# Altium schematic symbol library BiricuticoBonito.SchLib: 40 symbols (part 2 of 2)
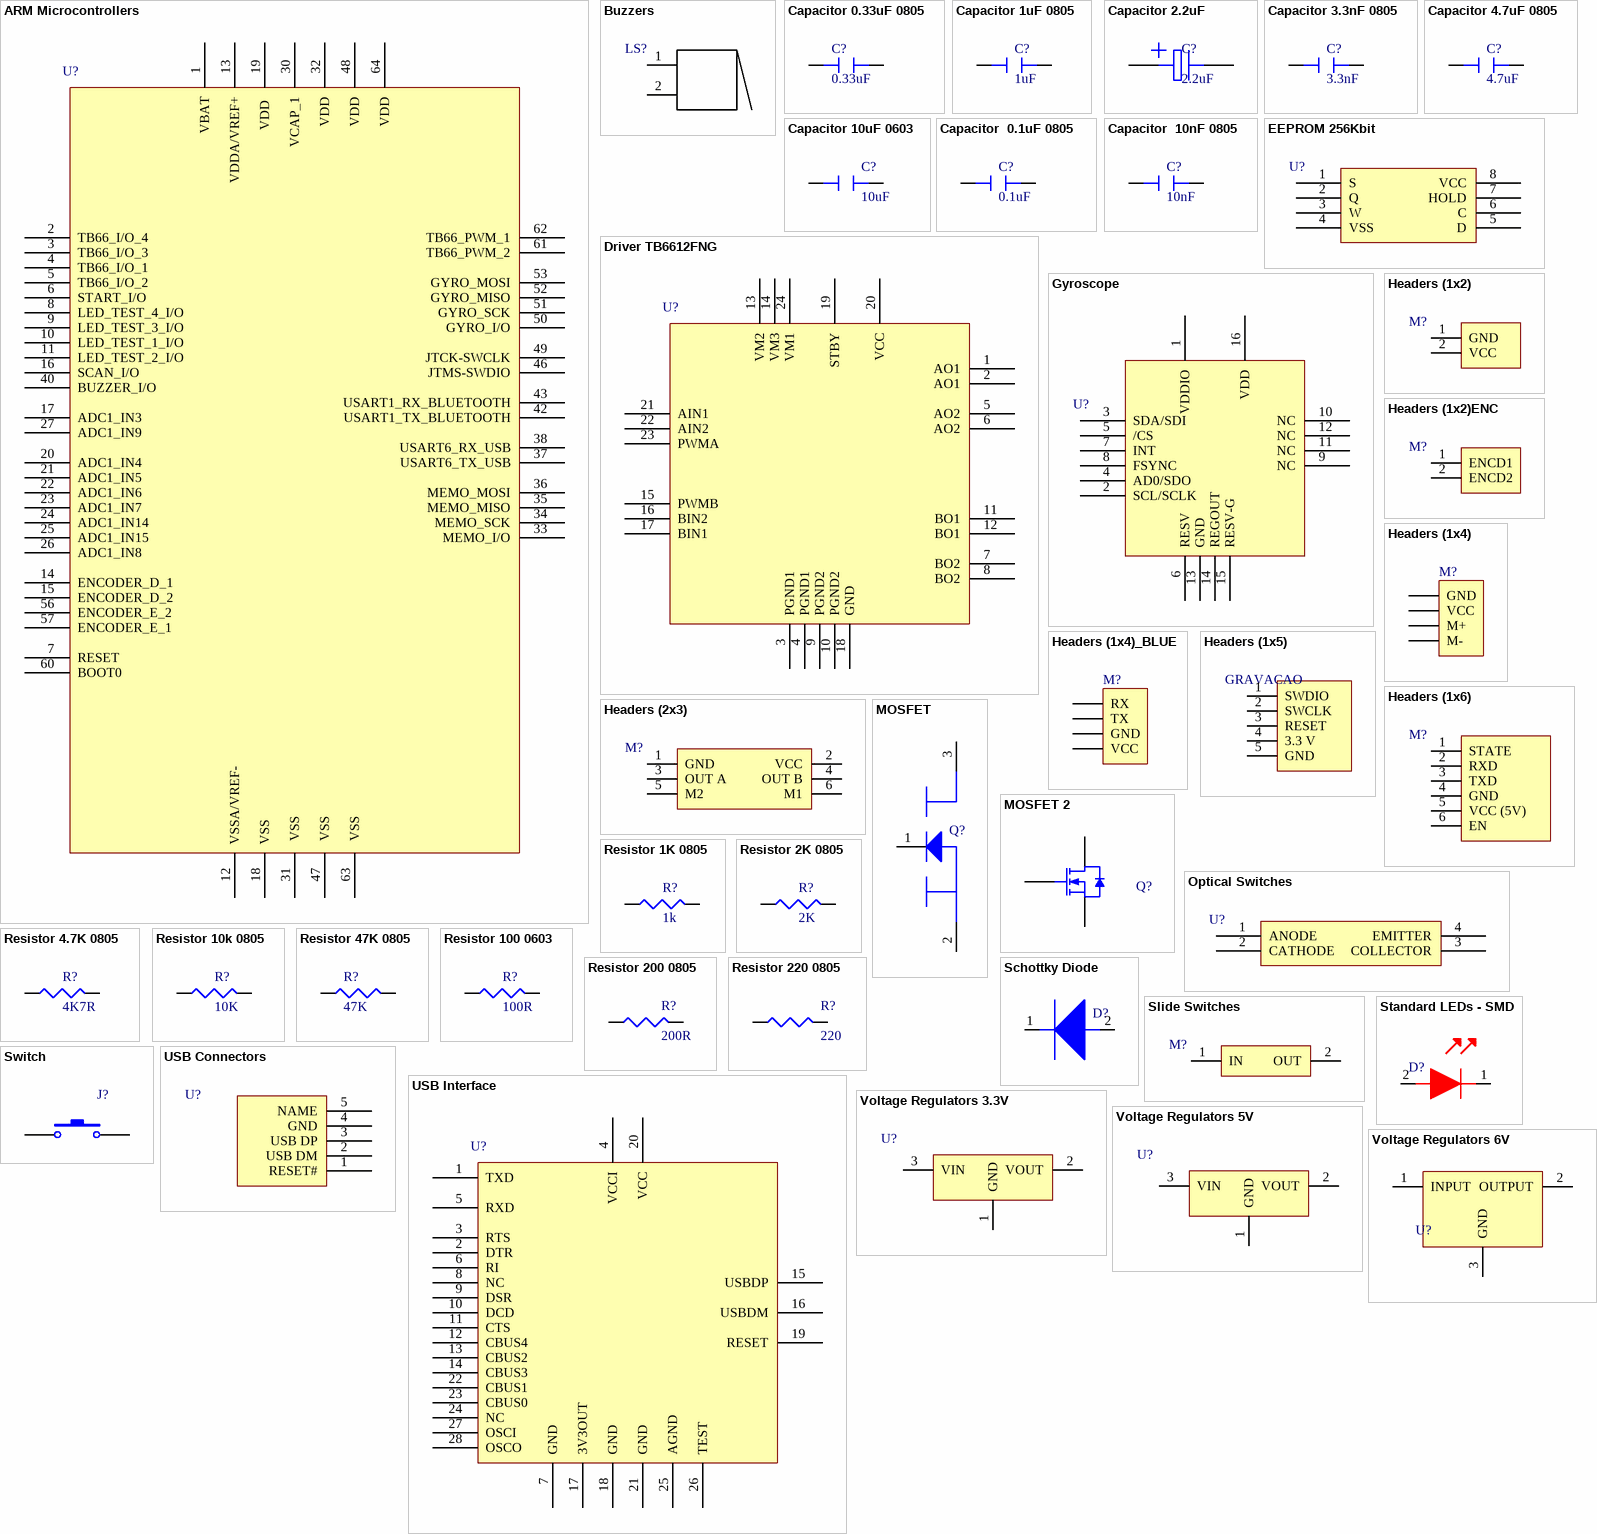
[diagram p1: symbols ARM Microcontrollers to Voltage Regulators 6V]

## Resistor 10k 0805
designator R?, comment 10K
RES SMD 10K OHM 1% 1/8W 0805; Manufacturer: Vishay; Manufacturer Part Number: CRCW080510K0FKEA; Resistance: 10kR; Power Rating: 125mW; Voltage Rating: 150V; Temperature Coefficient: 100ppm/°C; Supplier 1: Mouser; Stock 1: 474662; Pricing 1: 1=0.1, 10=0.066, 50=0.066, 100=0.06, 1000=0.043, 10000=0.019 (USD); Case/Package: 0805; Weight: 0.000194oz; Case Code (Imperial): 0805; Case Code (Metric): 2012; Contact Plating: Tin; Min Operating Temperature: -55°C; Max Operating Temperature: 155°C; Tolerance: 1%; Packaging: Tape and Reel; Package Quantity: 5000; Composition: Thick Film; Military Standard: Not; Termination: SMD/SMT; Voltage Rating (DC): 150V; Length: 2mm; Height: 0.45mm; Width: 1.25mm; Depth: 1.25mm; Radiation Hardening: No; REACH SVHC: Unknown; Lead Free: Lead Free; ComponentLink1URL: http://www.mouser.com/ds/2/427/dcrcwe3-109170.pdf?src-supplier=Mouser; ComponentLink1Description: http://www.mouser.com/ds/2/427/dcrcwe3-109170.pdf?src-supplier=Mouser; ComponentLink2URL: http://uk.rs-online.com/webdocs/0d98/0900766b80d98b26.pdf?src-supplier=RSComponents; ComponentLink2Description: http://uk.rs-online.com/webdocs/0d98/0900766b80d98b26.pdf?src-supplier=RSComponents; ComponentLink3URL: http://www.alliedelec.com/m/d/0c934d6939ccefa68dbe0b96d821c8cf.pdf?src-supplier=Allied+Electronics; ComponentLink3Description: http://www.alliedelec.com/m/d/0c934d6939ccefa68dbe0b96d821c8cf.pdf?src-supplier=Allied+Electronics; ComponentLink4URL: http://www.vishay.com/docs/20035/dcrcwe3.pdf?src-supplier=Avnet+Asia; ComponentLink4Description: http://www.vishay.com/docs/20035/dcrcwe3.pdf?src-supplier=Avnet+Asia; ComponentLink5URL: http://www.vishay.com/docs/20035/dcrcwe3.pdf?src-supplier=Avnet+Europe; ComponentLink5Description: http://www.vishay.com/docs/20035/dcrcwe3.pdf?src-supplier=Avnet+Europe; ComponentLink6URL: http://www.vishay.com/docs/20035/dcrcwe3.pdf?src-supplier=Avnet; ComponentLink6Description: http://www.vishay.com/docs/20035/dcrcwe3.pdf?src-supplier=Avnet; ComponentLink7URL: http://www.farnell.com/datasheets/2310790.pdf?src-supplier=Element14; ComponentLink7Description: http://www.farnell.com/datasheets/2310790.pdf?src-supplier=Element14; ComponentLink8URL: http://www.vishay.com/docs/20035/dcrcwe3.pdf?src-supplier=Future+Electronics; ComponentLink8Description: http://www.vishay.com/docs/20035/dcrcwe3.pdf?src-supplier=Future+Electronics; Supplier Part Number 1: 71-CRCW0805-10K-E3; Category: Thick Film Resistors - SMD
footprint 6-0805_M
pins: 1 28, 2 27

## Resistor 47K 0805
designator R?, comment 47K
RES SMD 47K OHM 1% 1/8W 0805; Manufacturer: Vishay; Manufacturer Part Number: CRCW080547K0FKEA; Resistance: 47kR; Voltage Rating: 150V; Power Rating: 125mW; Temperature Coefficient: 100ppm/°C; Supplier 1: Mouser; Stock 1: 21962; Pricing 1: 1=0.1, 10=0.066, 50=0.066, 100=0.047, 1000=0.027, 5000=0.019, 10000=0.015, 25000=0.013, 50000=0.011, 100000=0.01 (USD); Case/Package: 0805; Weight: 0.000194oz; Case Code (Imperial): 0805; Case Code (Metric): 2012; Contact Plating: Tin; Min Operating Temperature: -55°C; Max Operating Temperature: 155°C; Tolerance: 1%; Packaging: Tape and Reel; Package Quantity: 10; Composition: Thick Film; Termination: SMD/SMT; Number of Terminations: 2; Military Standard: Not; Max Power Dissipation: 125mW; Voltage Rating (DC): 150V; Features: Automotive AEC-Q200; Working Voltage: 150V; Length: 2mm; Height: 0.45mm; Width: 1.25mm; Depth: 1.25mm; Radiation Hardening: No; REACH SVHC: Unknown; Lead Free: Lead Free; ComponentLink1URL: https://www.alliedelec.com/m/d/0c934d6939ccefa68dbe0b96d821c8cf.pdf?src-supplier=Allied+Electronics; ComponentLink1Description: https://www.alliedelec.com/m/d/0c934d6939ccefa68dbe0b96d821c8cf.pdf?src-supplier=Allied+Electronics; ComponentLink2URL: http://www.vishay.com/docs/20035/dcrcwe3.pdf?src-supplier=Digi-Key; ComponentLink2Description: http://www.vishay.com/docs/20035/dcrcwe3.pdf?src-supplier=Digi-Key; ComponentLink3URL: http://www.vishay.com/docs/20035/dcrcwe3.pdf?src-supplier=Future+Electronics; ComponentLink3Description: http://www.vishay.com/docs/20035/dcrcwe3.pdf?src-supplier=Future+Electronics; ComponentLink4URL: https://www.distrelec.biz/Web/Downloads/a_/en/flD-CRCW-e3_data_en.pdf?mime=application%2Fpdf&src-supplier=Distrelec; ComponentLink4Description: https://www.distrelec.biz/Web/Downloads/a_/en/flD-CRCW-e3_data_en.pdf?mime=application%2Fpdf&src-supplier=Distrelec; ComponentLink5URL: http://www.farnell.com/datasheets/2310790.pdf?src-supplier=Element14; ComponentLink5Description: http://www.farnell.com/datasheets/2310790.pdf?src-supplier=Element14; ComponentLink6URL: http://www.vishay.com/docs/20035/dcrcwe3.pdf?src-supplier=Avnet; ComponentLink6Description: http://www.vishay.com/docs/20035/dcrcwe3.pdf?src-supplier=Avnet; ComponentLink7URL: http://uk.rs-online.com/webdocs/0d98/0900766b80d98b26.pdf?src-supplier=RSComponents; ComponentLink7Description: http://uk.rs-online.com/webdocs/0d98/0900766b80d98b26.pdf?src-supplier=RSComponents; ComponentLink8URL: http://www.vishay.com/docs/20035/dcrcwe3.pdf?src-supplier=Avnet+Europe; ComponentLink8Description: http://www.vishay.com/docs/20035/dcrcwe3.pdf?src-supplier=Avnet+Europe; ComponentLink9URL: http://www.farnell.com/datasheets/2046716.pdf?src-supplier=Element14; ComponentLink9Description: http://www.farnell.com/datasheets/2046716.pdf?src-supplier=Element14; Supplier Part Number 1: 71-CRCW0805-47K-E3; Category: Thick Film Resistors - SMD
footprint 6-0805_M
pins: 1 28, 2 27

## Resistor 100 0603
designator R?, comment 100R
RES SMD 100 OHM 1% 1/10W 0603; Manufacturer: Vishay Intertechnology; Manufacturer Part Number: CRCW0603100RFKEA; Power Rating: 100mW; Voltage Rating (DC): 75V; Temperature Coefficient: 100ppm/°C; Supplier 1: Mouser; Stock 1: 221485; Pricing 1: 1=0.1, 10=0.037, 50=0.037, 100=0.026, 1000=0.006, 10000=0.005 (USD); Case/Package: 0603; Number of Pins: 2; Packaging: Cut Tape; Resistance: 100R; Tolerance: 1%; Length: 1.55mm; Height: 450um; Width: 850um; REACH SVHC: No SVHC; Lead Free: Lead Free; Supplier Part Number 1: 71-CRCW0603-100-E3; Category: Thick Film Resistors - SMD
footprint 0603
pins: 1 28, 2 27

## Resistor 200 0805
designator R?, comment 200R
RES SMD 200 OHM 1% 1/8W 0805; Manufacturer: Vishay; Manufacturer Part Number: CRCW0805200RFKEA; Power Rating: 125mW; Voltage Rating: 150V; Temperature Coefficient: 100ppm/°C; Supplier 1: Mouser; Stock 1: 44278; Pricing 1: 1=0.1, 10=0.066, 50=0.066, 100=0.047, 1000=0.027, 10000=0.015 (USD); Mount: Surface Mount; Case/Package: 0805; Number of Pins: 2; Weight: 0.000194oz; Case Code (Metric): 2012; Case Code (Imperial): 0805; Contact Plating: Tin; Min Operating Temperature: -55°C; Max Operating Temperature: 155°C; Resistance: 200R; Tolerance: 1%; Packaging: Tape and Reel; Package Quantity: 10; Composition: Thick Film; Number of Terminations: 2; Termination: SMD/SMT; Military Standard: Not; Max Power Dissipation: 125mW; Voltage Rating (DC): 150V; Working Voltage: 150V; Features: Automotive AEC-Q200; Length: 2mm; Height: 0.45mm; Width: 0.049inch; Depth: 1.25mm; Radiation Hardening: No; REACH SVHC: Unknown; Lead Free: Lead Free; ComponentLink1URL: http://www.vishay.com/docs/20035/dcrcwe3.pdf?src-supplier=Digi-Key; ComponentLink1Description: http://www.vishay.com/docs/20035/dcrcwe3.pdf?src-supplier=Digi-Key; ComponentLink2URL: http://www.vishay.com/docs/20035/dcrcwe3.pdf?src-supplier=Avnet+Europe; ComponentLink2Description: http://www.vishay.com/docs/20035/dcrcwe3.pdf?src-supplier=Avnet+Europe; ComponentLink3URL: http://www.farnell.com/datasheets/2310790.pdf?src-supplier=Element14; ComponentLink3Description: http://www.farnell.com/datasheets/2310790.pdf?src-supplier=Element14; ComponentLink4URL: http://www.alliedelec.com/m/d/0c934d6939ccefa68dbe0b96d821c8cf.pdf?src-supplier=Allied+Electronics; ComponentLink4Description: http://www.alliedelec.com/m/d/0c934d6939ccefa68dbe0b96d821c8cf.pdf?src-supplier=Allied+Electronics; ComponentLink5URL: http://www.mouser.com/ds/2/427/dcrcwe3-109170.pdf?src-supplier=Mouser; ComponentLink5Description: http://www.mouser.com/ds/2/427/dcrcwe3-109170.pdf?src-supplier=Mouser; ComponentLink6URL: https://www.distrelec.biz/Web/Downloads/a_/en/flD-CRCW-e3_data_en.pdf?mime=application%2Fpdf&src-supplier=Distrelec; ComponentLink6Description: https://www.distrelec.biz/Web/Downloads/a_/en/flD-CRCW-e3_data_en.pdf?mime=application%2Fpdf&src-supplier=Distrelec; ComponentLink7URL: http://uk.rs-online.com/webdocs/13ec/0900766b813ecbf4.pdf?src-supplier=RSComponents; ComponentLink7Description: http://uk.rs-online.com/webdocs/13ec/0900766b813ecbf4.pdf?src-supplier=RSComponents; ComponentLink8URL: http://www.vishay.com/docs/20035/dcrcwe3.pdf?src-supplier=Avnet; ComponentLink8Description: http://www.vishay.com/docs/20035/dcrcwe3.pdf?src-supplier=Avnet; ComponentLink9URL: http://www.vishay.com/docs/20035/dcrcwe3.pdf?src-supplier=Future+Electronics; ComponentLink9Description: http://www.vishay.com/docs/20035/dcrcwe3.pdf?src-supplier=Future+Electronics; Supplier Part Number 1: 71-CRCW0805-200-E3; Category: Thick Film Resistors - SMD
footprint 6-0805_M
pins: 1 28, 2 27

## Resistor 220 0805
designator R?, comment 220
RES SMD 220 OHM 1% 1/8W 0805; Manufacturer: Vishay Semiconductors; Manufacturer Part Number: CRCW0805220RFKEAC; Resistance: 220R; Power Rating: 125mW; Temperature Coefficient: 100ppm/°C; Supplier 1: Mouser; Stock 1: 36802; Pricing 1: 1=0.1, 10=0.052, 100=0.02, 500=0.012, 1000=0.006, 5000=0.005 (USD); Mount: Surface Mount; Case/Package: SMD/SMT; Contact Plating: Tin; Min Operating Temperature: -55°C; Max Operating Temperature: 155°C; Composition: Thick Film; Tolerance: 1%; Termination: Wraparound; Length: 2mm; Lead Free: Lead Free; Supplier Part Number 1: 71-CRCW0805220RFKEAC; Category: Thick Film Resistors - SMD
footprint 6-0805_M
pins: 1 28, 2 27

## Schottky Diode
designator D?  (value not drawn)
DIODE SCHOTTKY 40V 3A MINI2; Manufacturer: Panasonic; Manufacturer Part Number: DB2W40300L; Max Surge Current: 30A; Recovery Time: 15ns; Peak Reverse Current: 250uA; Element Configuration: Single; Supplier 1: Mouser; Stock 1: 145800; Pricing 1: 1=0.6, 10=0.421, 50=0.421, 100=0.277, 500=0.164, 1000=0.126, 3000=0.104, 9000=0.095, 10000=0.095, 24000=0.089, 45000=0.08 (USD); Mount: Surface Mount; Number of Pins: 2; Min Operating Temperature: -55°C; Max Operating Temperature: 150°C; Packaging: Tape and Reel; Package Quantity: 3000; Forward Current: 3A; Max Reverse Leakage Current: 250uA; Average Rectified Current: 3A; Reverse Recovery Time: 15ns; Max Repetitive Reverse Voltage (Vrrm): 40V; Max Forward Surge Current (Ifsm): 30A; Max Reverse Voltage (DC): 40V; Length: 2.6mm; Height: 0.8mm; Width: 1.6mm; Lead Free: Lead Free; ComponentLink1URL: http://www.mouser.com/ds/2/315/DB2W403_BED-276390.pdf?src-supplier=Mouser; ComponentLink1Description: http://www.mouser.com/ds/2/315/DB2W403_BED-276390.pdf?src-supplier=Mouser; Supplier Part Number 1: 667-DB2W40300L; Category: Schottky Diodes & Rectifiers
footprint SODFL3516X85N
pins: 1 22, 2 23

## Slide Switches
designator M?  (value not drawn)
46202LRX-; Manufacturer: Switchcraft; Actuator Material: Thermoplastic; Contact Current Rating: 3A; Voltage Rating (AC): 125V; Throw Configuration: SPST; Contact Style: Non-Shorting; Switch Travel: 4.78mm; Switch Function: On-Off; Actuator Type: Standard; Actuator Length: 8.74mm; Supplier 1: Mouser; Manufacturer Part Number: 46202LRX; Stock 1: 374; Pricing 1: 1=1.31, 10=1.27, 25=1.15, 50=1.02, 100=0.897, 1000=0.897, 10000=0.897 (USD); Mount: Panel; Contact Plating: Silver; Contact Material: Copper Alloy,Brass; Housing Material: Steel; Min Operating Temperature: -20°C; Max Operating Temperature: 70°C; Package Quantity: 1; Max Current Rating: 3A; Max Voltage Rating (AC): 125V; Voltage Rating (DC): 125V; Packaging: Bulk; Current Rating: 3A; Max Voltage Rating (DC): 125V; Termination: Solder; Voltage Rating: 125V; Orientation: Vertical; Length: 35.05mm; Width: 13.5mm; Depth: 13.46mm; REACH SVHC: Unknown; Lead Free: Lead Free; ComponentLink1URL: https://www.alliedelec.com/m/d/b871a11ddd3a58540a403f8c1668b2ef.pdf?src-supplier=Allied+Electronics; ComponentLink1Description: https://www.alliedelec.com/m/d/b871a11ddd3a58540a403f8c1668b2ef.pdf?src-supplier=Allied+Electronics; ComponentLink2URL: http://uk.rs-online.com/webdocs/141a/0900766b8141acc7.pdf?src-supplier=RSComponents; ComponentLink2Description: http://uk.rs-online.com/webdocs/141a/0900766b8141acc7.pdf?src-supplier=RSComponents; ComponentLink3URL: http://www.switchcraft.com/Drawings/46200LRX_SERIES_CD.pdf?src-supplier=Digi-Key; ComponentLink3Description: http://www.switchcraft.com/Drawings/46200LRX_SERIES_CD.pdf?src-supplier=Digi-Key; ComponentLink4URL: http://www.switchcraft.com/Drawings/46200LRX%20SERIES_CD.pdf?src-supplier=Mouser; ComponentLink4Description: http://www.switchcraft.com/Drawings/46200LRX%20SERIES_CD.pdf?src-supplier=Mouser; ComponentLink5URL: http://www.farnell.com/datasheets/814601.pdf?src-supplier=Farnell; ComponentLink5Description: http://www.farnell.com/datasheets/814601.pdf?src-supplier=Farnell; ComponentLink6URL: http://components.arrow.com/part/dataview/42506918S9181833N6102?src-supplier=Arrow; ComponentLink6Description: http://components.arrow.com/part/dataview/42506918S9181833N6102?src-supplier=Arrow; ComponentLink7URL: http://www.farnell.com/datasheets/814601.pdf?src-supplier=Element14; ComponentLink7Description: http://www.farnell.com/datasheets/814601.pdf?src-supplier=Element14; Supplier Part Number 1: 502-46202LRX; Category: Slide Switches
footprint Power_Switch
pins: 1 IN, 2 OUT

## Standard LEDs - SMD
designator D?  (value not drawn)
WURTH ELEKTRONIK - 150060RS75000 - LED, 0603, RED, 250MCD, 625NM; Manufacturer: Wurth Electronics; Viewing Angle: 140°; Lens Style: Clear,Rectangular; Forward Current: 30mA; Forward Voltage: 2V; Test Current: 20mA; Supplier 1: Mouser; Manufacturer Part Number: 150060RS75000; Stock 1: 77279; Pricing 1: 1=0.14, 10=0.138, 50=0.129, 100=0.11, 1000=0.095, 10000=0.095 (USD); Mount: Surface Mount; Case/Package: 0603; Color: Red; Case Code (Metric): 1608; Case Code (Imperial): 0603; Min Operating Temperature: -40°C; Max Operating Temperature: 85°C; Package Quantity: 1; Packaging: Cut Tape; Luminous Intensity: 250mcd; Wavelength: 625nm; Dominant Wavelength: 625nm; Length: 1.6mm; Height: 0.7mm; Width: 0.8mm; REACH SVHC: Unknown; ComponentLink1URL: https://katalog.we-online.de/led/datasheet/150060RS75000.pdf?src-supplier=Digi-Key; ComponentLink1Description: https://katalog.we-online.de/led/datasheet/150060RS75000.pdf?src-supplier=Digi-Key; ComponentLink2URL: http://www.produktinfo.conrad.com/datenblaetter/750000-774999/759428-da-01-en-CHIPLED_0603_W_KL_ROT_150060RS75000.pdf?src-supplier=Conrad; ComponentLink2Description: http://www.produktinfo.conrad.com/datenblaetter/750000-774999/759428-da-01-en-CHIPLED_0603_W_KL_ROT_150060RS75000.pdf?src-supplier=Conrad; Supplier Part Number 1: 710-150060RS75000; Category: Standard LEDs - SMD
footprint Standard LEDs - SMD
pins: 1 19, 2 18

## Switch
designator J?, comment BUTTON  (value not drawn)
Switch; Manufacturer: Panasonic; Manufacturer Part Number: EVP-BFAC1A000; Mechanical Life: 1000000Cycles; Throw Configuration: SPST; Illumination Type: Non-Illuminated; Switch Function: Off-Mom; Operating Force: 200gf; Switch Travel: 0.25mm; Supplier 1: Mouser; Stock 1: 3866; Pricing 1: 1=0.3, 10=0.265, 100=0.203, 1000=0.173, 2000=0.134, 9000=0.134 (USD); Mount: Surface Mount; Min Operating Temperature: -40°C; Max Operating Temperature: 85°C; Packaging: Tape and Reel; ComponentLink1URL: https://industrial.panasonic.com/ac/cdn/e/control/switch/light-touch/catalog/sw_lt_eng_6s_mid.pdf?src-supplier=Digi-Key; ComponentLink1Description: https://industrial.panasonic.com/ac/cdn/e/control/switch/light-touch/catalog/sw_lt_eng_6s_mid.pdf?src-supplier=Digi-Key; Category: Tactile Switches; Supplier Part Number 1: 667-EVP-BFAC1A000
footprint FSM4JSMA
pins: 1, 2

## USB Connectors
designator U?  (value not drawn)
MOLEX         67643-0910            USB, 2.0 TYPE A, RECEPTACLE, SMT; Max Voltage Rating (DC): 30V; Gender: Female; Current Rating: 1.5A; Connector Type: USB,Receptacle; Number of Ports: 1; Number of Contacts: 4; USB Standard: USB 2.0; Manufacturer: Molex; Manufacturer Part Number: 67643-0910; Mount: Through Hole; Contact Plating: Gold; Contact Material: Bronze; Number of Terminals: 4; Housing Color: Black; Housing Material: Polyester; Min Operating Temperature: 0°C; Max Operating Temperature: 50°C; Packaging: Tray; Voltage Rating (DC): 30V; Termination: Solder; Voltage Rating: 30V; Orientation: Right Angle; Number of Positions: 4; Number of Circuits: 4; Length: 14.4mm; Depth: 15.26mm; Radiation Hardening: No; REACH SVHC: Unknown; Lead Free: Lead Free; Flammability Rating: UL94 V-0; ComponentLink1URL: http://www.molex.com/webdocs/datasheets/pdf/en-us/0676430910_IO_CONNECTORS.pdf?src-supplier=Avnet+Europe; ComponentLink1Description: http://www.molex.com/webdocs/datasheets/pdf/en-us/0676430910_IO_CONNECTORS.pdf?src-supplier=Avnet+Europe; ComponentLink2URL: http://www.mouser.com/ds/2/276/0676430910_IO_CONNECTORS-172292.pdf?src-supplier=Mouser; ComponentLink2Description: http://www.mouser.com/ds/2/276/0676430910_IO_CONNECTORS-172292.pdf?src-supplier=Mouser; ComponentLink3URL: https://www.verical.com/server-webapp/html/getDatasheet?partID=758674&src-supplier=Verical; ComponentLink3Description: https://www.verical.com/server-webapp/html/getDatasheet?partID=758674&src-supplier=Verical; ComponentLink4URL: http://www.farnell.com/datasheets/1865732.pdf?src-supplier=Element14; ComponentLink4Description: http://www.farnell.com/datasheets/1865732.pdf?src-supplier=Element14; Category: USB Connectors
footprint USB Micro
pins: 1 RESET#, 2 USB DM, 3 USB DP, 4 GND, 5 NAME

## USB Interface
designator U?  (value not drawn)
IC USB FS SERIAL UART 28-SSOP; Manufacturer: FTDI; Manufacturer Part Number: FT232RL-REEL; Number of Channels: 1; Max Supply Voltage: 5.25V; Min Supply Voltage: 3.3V; Data Rate: 12Mbps; Interface: UART,RS-232,RS-422,RS-485; Operating Supply Current: 15mA; Voltage: 5V; Supplier 1: Mouser; Stock 1: 115709; Pricing 1: 1=4.5, 10=4.05, 50=3.85, 100=3.65, 250=3.25, 500=2.85, 1000=2.65, 6000=2.35, 10000=2.65 (USD); Mount: Surface Mount; Case/Package: SSOP; Number of Pins: 28; Weight: 0.080001oz; Min Operating Temperature: -40°C; Max Operating Temperature: 85°C; Packaging: Tape and Reel; Package Quantity: 2000; Number of Transceivers: 1; Length: 10.2mm; Height: 1.75mm; Width: 5.3mm; Radiation Hardening: No; REACH SVHC: No SVHC; Lead Free: Lead Free; ComponentLink1URL: http://www.jameco.com/Jameco/Products/ProdDS/2161019.pdf?src-supplier=Jameco; ComponentLink1Description: http://www.jameco.com/Jameco/Products/ProdDS/2161019.pdf?src-supplier=Jameco; ComponentLink2URL: http://www.ftdichip.com/Support/Documents/AppNotes/AN_126_User_Guide_For_FT232_Factory%20test%20utility.pdf?src-supplier=Digi-Key; ComponentLink2Description: http://www.ftdichip.com/Support/Documents/AppNotes/AN_126_User_Guide_For_FT232_Factory%20test%20utility.pdf?src-supplier=Digi-Key; ComponentLink3URL: http://www.mouser.com/ds/2/163/DS_FT232R-11534.pdf?src-supplier=Mouser; ComponentLink3Description: http://www.mouser.com/ds/2/163/DS_FT232R-11534.pdf?src-supplier=Mouser; ComponentLink4URL: https://www.verical.com/server-webapp/html/getDatasheet?partID=643207&src-supplier=Verical; ComponentLink4Description: https://www.verical.com/server-webapp/html/getDatasheet?partID=643207&src-supplier=Verical; ComponentLink5URL: http://www.ftdichip.com/Support/Documents/DataSheets/ICs/DS_FT232R.pdf?src-supplier=Future+Electronics; ComponentLink5Description: http://www.ftdichip.com/Support/Documents/DataSheets/ICs/DS_FT232R.pdf?src-supplier=Future+Electronics; ComponentLink6URL: http://datasheet.iiic.cc/ftdi/FT232RL-REEL.pdf?src-supplier=IIIC; ComponentLink6Description: http://datasheet.iiic.cc/ftdi/FT232RL-REEL.pdf?src-supplier=IIIC; Supplier Part Number 1: 895-FT232RL; Category: USB Interface IC
footprint SOP65P780X200-28N
pins: 1 TXD, 2 DTR, 3 RTS, 4 VCCI, 5 RXD, 6 RI, 7 GND, 8 NC, 9 DSR, 10 DCD, 11 CTS, 12 CBUS4, 13 CBUS2, 14 CBUS3, 15 USBDP, 16 USBDM, 17 3V3OUT, 18 GND, 19 RESET, 20 VCC, 21 GND, 22 CBUS1, 23 CBUS0, 24 NC, 25 AGND, 26 TEST, 27 OSCI, 28 OSCO

## Voltage Regulators 3.3V
designator U?  (value not drawn)
IC REG LINEAR 3.3V 1.2A SOT223; Manufacturer: STMicroelectronics; Manufacturer Part Number: LDL1117S33R; Output Type: Fixed; Output Configuration: Positive; Number of Regulators: 1; Max Input Voltage: 18V; Dropout Voltage: 600mV; Quiescent Current: 500uA; Power Supply Rejection Ratio (PSRR): 65dB; Supplier 1: Mouser; Stock 1: 8562; Pricing 1: 1=0.43, 10=0.332, 50=0.332, 100=0.18, 1000=0.135, 2500=0.116, 10000=0.109, 25000=0.1, 50000=0.096, 100000=0.093 (USD); Mount: Surface Mount; Case/Package: TO-261-4; Min Operating Temperature: -40°C; Max Operating Temperature: 125°C; Packaging: Tape and Reel; Min Output Voltage: 3.3V; Output Current: 1.2A; ComponentLink1URL: http://www.farnell.com/datasheets/2259188.pdf?src-supplier=Farnell; ComponentLink1Description: http://www.farnell.com/datasheets/2259188.pdf?src-supplier=Farnell; ComponentLink2URL: http://www.st.com/content/ccc/resource/technical/document/datasheet/group3/0e/5a/00/ca/10/1a/4f/a5/DM00366442/files/DM00366442.pdf/jcr:content/translations/en.DM00366442.pdf?src-supplier=Digi-Key; ComponentLink2Description: http://www.st.com/content/ccc/resource/technical/document/datasheet/group3/0e/5a/00/ca/10/1a/4f/a5/DM00366442/files/DM00366442.pdf/jcr:content/translations/en.DM00366442.pdf?src-supplier=Digi-Key; ComponentLink3URL: http://www.farnell.com/datasheets/2259188.pdf?src-supplier=Newark; ComponentLink3Description: http://www.farnell.com/datasheets/2259188.pdf?src-supplier=Newark; ComponentLink4URL: http://www.farnell.com/datasheets/2259188.pdf?src-supplier=Element14; ComponentLink4Description: http://www.farnell.com/datasheets/2259188.pdf?src-supplier=Element14; Supplier Part Number 1: 511-LDL1117S33R; Category: Linear Voltage Regulators
footprint SOT230P700X180-4N
pins: 1 GND, 2 VOUT, 3 VIN

## Voltage Regulators 5V
designator U?  (value not drawn)
IC REG LINEAR 5V 1.2A SOT223; Manufacturer: STMicroelectronics; Manufacturer Part Number: LDL1117S50R; Output Type: Fixed; Output Configuration: Positive; Number of Regulators: 1; Max Input Voltage: 18V; Dropout Voltage: 600mV; Quiescent Current: 500uA; Power Supply Rejection Ratio (PSRR): 65dB; Supplier 1: Mouser; Stock 1: 9455; Pricing 1: 1=0.44, 10=0.332, 50=0.332, 100=0.18, 1000=0.135, 2500=0.116, 10000=0.109 (USD); Mount: Surface Mount; Case/Package: TO-261-4; Min Operating Temperature: -40°C; Max Operating Temperature: 125°C; Packaging: Tape and Reel; Min Output Voltage: 5V; Output Current: 1.2A; ComponentLink1URL: http://www.st.com/content/ccc/resource/technical/document/datasheet/group3/0e/5a/00/ca/10/1a/4f/a5/DM00366442/files/DM00366442.pdf/jcr:content/translations/en.DM00366442.pdf?src-supplier=Digi-Key; ComponentLink1Description: http://www.st.com/content/ccc/resource/technical/document/datasheet/group3/0e/5a/00/ca/10/1a/4f/a5/DM00366442/files/DM00366442.pdf/jcr:content/translations/en.DM00366442.pdf?src-supplier=Digi-Key; ComponentLink2URL: http://www.farnell.com/datasheets/2259188.pdf?src-supplier=Farnell; ComponentLink2Description: http://www.farnell.com/datasheets/2259188.pdf?src-supplier=Farnell; Supplier Part Number 1: 511-LDL1117S50R; Category: Linear Voltage Regulators
footprint SOT230P700X180-4N
pins: 1 GND, 2 VOUT, 3 VIN

## Voltage Regulators 6V
designator U?  (value not drawn)
IC REG LINEAR 6V 1.5A D2PAK; Manufacturer: STMicroelectronics; Manufacturer Part Number: L7806ABD2T-TR; Dropout Voltage: 2V; Number of Outputs: 1; Max Input Voltage: 35V; Min Input Voltage: 8V; Polarity: Positive; Quiescent Current: 6mA; Output Voltage Accuracy: 2%; Power Supply Rejection Ratio (PSRR): 65dB; Output Type: Fixed; Supplier 1: Mouser; Stock 1: 2009; Pricing 1: 1=0.78, 10=0.651, 50=0.651, 100=0.42, 1000=0.336, 2000=0.284, 10000=0.274, 25000=0.263, 50000=0.259, 100000=0.253 (USD); Mount: Surface Mount; Case/Package: TO-263; Number of Pins: 3; Min Operating Temperature: -40°C; Max Operating Temperature: 125°C; Output Current: 1.5A; Package Quantity: 1; Packaging: Tape and Reel; Output Voltage: 6V; Max Output Current: 1.5A; Number of Regulators: 1; Min Output Voltage: 6V; Accuracy: 2%; Length: 10.4mm; Height: 4.6mm; Width: 9.35mm; Radiation Hardening: No; Lead Free: Lead Free; ComponentLink1URL: http://www.st.com/content/ccc/resource/technical/document/datasheet/41/4f/b3/b0/12/d4/47/88/CD00000444.pdf/files/CD00000444.pdf/jcr:content/translations/en.CD00000444.pdf?src-supplier=Digi-Key; ComponentLink1Description: http://www.st.com/content/ccc/resource/technical/document/datasheet/41/4f/b3/b0/12/d4/47/88/CD00000444.pdf/files/CD00000444.pdf/jcr:content/translations/en.CD00000444.pdf?src-supplier=Digi-Key; ComponentLink2URL: http://www.st.com/web/en/resource/technical/document/datasheet/CD00000444.pdf?src-supplier=Avnet+Europe; ComponentLink2Description: http://www.st.com/web/en/resource/technical/document/datasheet/CD00000444.pdf?src-supplier=Avnet+Europe; ComponentLink3URL: http://www.st.com/web/en/resource/technical/document/datasheet/CD00000444.pdf?src-supplier=Future+Electronics; ComponentLink3Description: http://www.st.com/web/en/resource/technical/document/datasheet/CD00000444.pdf?src-supplier=Future+Electronics; ComponentLink4URL: http://www.mouser.com/ds/2/389/l78-974043.pdf?src-supplier=Mouser; ComponentLink4Description: http://www.mouser.com/ds/2/389/l78-974043.pdf?src-supplier=Mouser; ComponentLink5URL: http://www.st.com/web/en/resource/technical/document/datasheet/CD00000444.pdf?src-supplier=Avnet; ComponentLink5Description: http://www.st.com/web/en/resource/technical/document/datasheet/CD00000444.pdf?src-supplier=Avnet; Supplier Part Number 1: 511-L7806ABD2T-TR; Category: Linear Voltage Regulators
footprint Voltage Regulators 6V
pins: 1 INPUT, 2 OUTPUT, 3 GND